# EAGLE library part MAX4376FASA (library Octanis1_EPS)
MAX4376/MAX4377/ MAX4378 Single/Dual/Quad, High-Side Current-Sense Amplifiers with Internal Gain
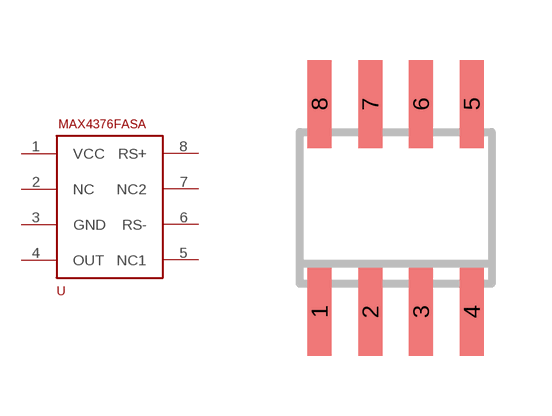
[diagram p0: symbol with the pads of SO8; footprint SO8]

Designator prefix -

## MAX4376FASASO8  [SO8]
1  VCC
2  NC
3  GND
4  OUT
5  NC1
6  RS-
7  NC2
8  RS+

## Footprint SO8 (pad centres in mm)
SMALL OUTLINE INTEGRATED CIRCUIT SOP-8L Source: http://www.diodes.com/datasheets/ds31262.pdf
smd 0.6 x 2.2: 1 -1.905,-2.6; 2 -0.635,-2.6; 3 0.635,-2.6; 4 1.905,-2.6; 5 1.905,2.6; 6 0.635,2.6; 7 -0.635,2.6; 8 -1.905,2.6